# Altium footprint library 0603.PcbLib: 1 footprints
Each footprint in its own frame and in the unit in brackets; x right, y up, seen from the top. Pads: shape width x height; smd on the part's side, far side on the other; paste and mask are expansions set on the pad; w line width, h text height; cw(c..) or ccw(c..) is an arc to the next point about the centre after c.
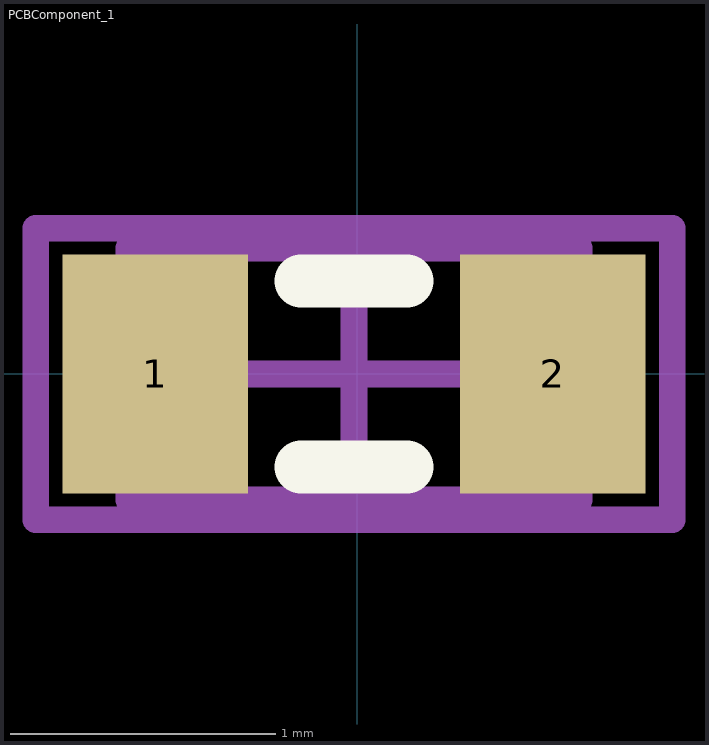
[diagram p0: the footprint, top view; thin cyan lines are the x and y axes]

## PCBComponent_1 [mm]
pads (2):
  rect 0.7x0.9 smd: 1(-0.762,0) 2(0.738,0)
Top Overlay:
  lines w0.2: -0.212,-0.35 0.188,-0.35 ; -0.212,0.35 0.188,0.35
Mechanical 13:
  lines w0.1: -0.862,-0.475 -0.862,0.475 0.838,0.475 0.838,-0.475 -0.862,-0.475
Mechanical 15:
  lines w0.1: -0.487,0 0.463,0 ; -0.012,-0.475 -0.012,0.475 ; -1.212,-0.55 -1.212,0.55 1.188,0.55 1.188,-0.55 -1.212,-0.55
3D body: height 0.9, standoff 0, extent -0.862,-0.475 0.838,0.475